# Altium integrated library LB1209.IntLib: 1 symbol
Pins are listed as number, name and electrical type; pins without a type are passive.

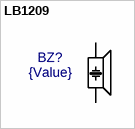
[diagram p0: symbol LB1209]

## LB1209
designator BZ?  value {Value}  (hidden comment: LB1209)
footprint ZP_LB1209
pins: 1, 2